# Altium schematic symbol library c&k-slide.SchLib: 6 symbols
Pins are listed as number, name and electrical type; pins without a type are passive.

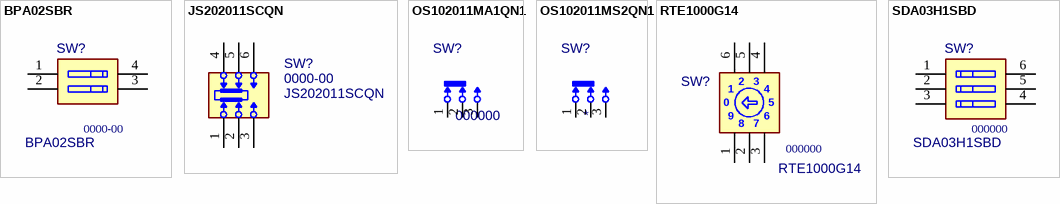
[diagram p0: symbols BPA02SBR to SDA03H1SBD]

## BPA02SBR
designator SW?, comment 0000-00  value BPA02SBR
DIP Switch, 2 Positions; MF: C&K; PN: 0000-00; MF PN: BPA02SBR; ExtraInfo: *
footprint BPA02SBR (Dip Switch Side Actuator - SMT)
pins: 1 A1, 2 A2, 3 B2, 4 B1

## JS202011SCQN
designator SW?, comment 0000-00  value JS202011SCQN
Slide Switch - 2 Poles 2 Positions; PN: 0000-00; ExtraInfo: *
footprint JS202011SCQN (DP2T - Sub-Moniature Slide Switch)
pins: 1, 2, 3, 4, 5, 6

## OS102011MA1QN1
designator SW?, comment 000000
Slide Switch - Right Angle; Value: OS102011MA1QN1; PN: 000000; ExtraInfo: *
footprint OS102011MA1QN1 (Miniature Slide Switch - 8.6mmX4.4mm, Right Angle)
pins: 1, 2, 3

## OS102011MS2QN1
designator SW?
Slide Switch - Vertical; Value: OS102011MS2QN1; PN: *; ExtraInfo: *
footprint OS102011MS2QN1 (Miniature Slide Switch - 8.6mmX4.4mm, Vertical)
pins: 1, 2, 3

## RTE1000G14
designator SW?, comment 000000  value RTE1000G14
Rotary DIP Switch, 10 Pos, BCD; MF: C&K; PN: 000000; MF PN: RTE1000G14; Package: SMT-DIP; ExtraInfo: *
footprint RTE1000G14 (Low profile rotary DIP switch 10 pos. BCD code SMD)
pins: 1 A1, 2 A2, 3 A3, 4 B3, 5 B2, 6 B1
text: 0; 9; 8; 7

## SDA03H1SBD
designator SW?, comment 000000  value SDA03H1SBD
DIP Switch, 2 Positions; MF: C&K; PN: 000000; MF PN: SDA03H1SBD; Package: SMT-DIP; ExtraInfo: *
footprint SDA03H1SBD (Dip Switch Top Actuator - SMT)
pins: 1 A1, 2 A2, 3 A3, 4 B3, 5 B2, 6 B1